# Altium schematic symbol library Battery.SchLib: 2 symbols
Pins are listed as number, name and electrical type; pins without a type are passive.

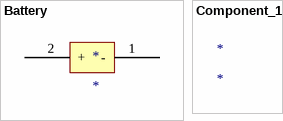
[diagram p0: symbols Battery to Component_1]

## Battery
designator *
footprint BATTERY
footprint BATTERY
pins: 1 -, 2 +

## Component_1
designator *